# EAGLE library part BDCA-6-16 (library minicircuits1)
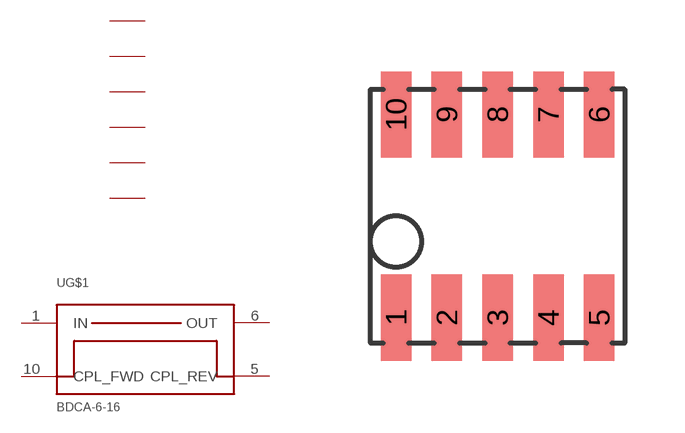
[diagram p35: symbol with the pads of DZ944; footprint DZ944]

Designator prefix -; gates G$1=BIDIRECTIONAL_COUPLER G$2=GND G$3=GND G$4=GND G$5=GND G$6=GND G$7=GND

## BDCA-6-16  [DZ944]
1  G$1:IN  in
2  G$2:GND  pwr
3  G$3:GND  pwr
4  G$4:GND  pwr
5  G$1:CPL_REV  out
6  G$1:OUT  out
7  G$5:GND  pwr
8  G$6:GND  pwr
9  G$7:GND  pwr
10  G$1:CPL_FWD  out

## Footprint DZ944 (pad centres in mm)
DZ944 case material: ceramic Lead finish: tin-lead plate or tin plate http://www.minicircuits.com/cgi-bin/inquery.cgi?querystring=dz944&searchtype=case
smd 0.762 x 2.159: 1 0,1.27; 2 1.27,1.27; 3 2.54,1.27; 4 3.81,1.27; 5 5.08,1.27; 6 5.08,6.35; 7 3.81,6.35; 8 2.54,6.35; 9 1.27,6.35; 10 0,6.35